# Altium footprint library Hello.PcbLib: 234 footprints (part 3 of 15)
Each footprint in its own frame and in the unit in brackets; x right, y up, seen from the top. Pads: shape width x height; smd on the part's side, far side on the other; paste and mask are expansions set on the pad; w line width, h text height; cw(c..) or ccw(c..) is an arc to the next point about the centre after c.
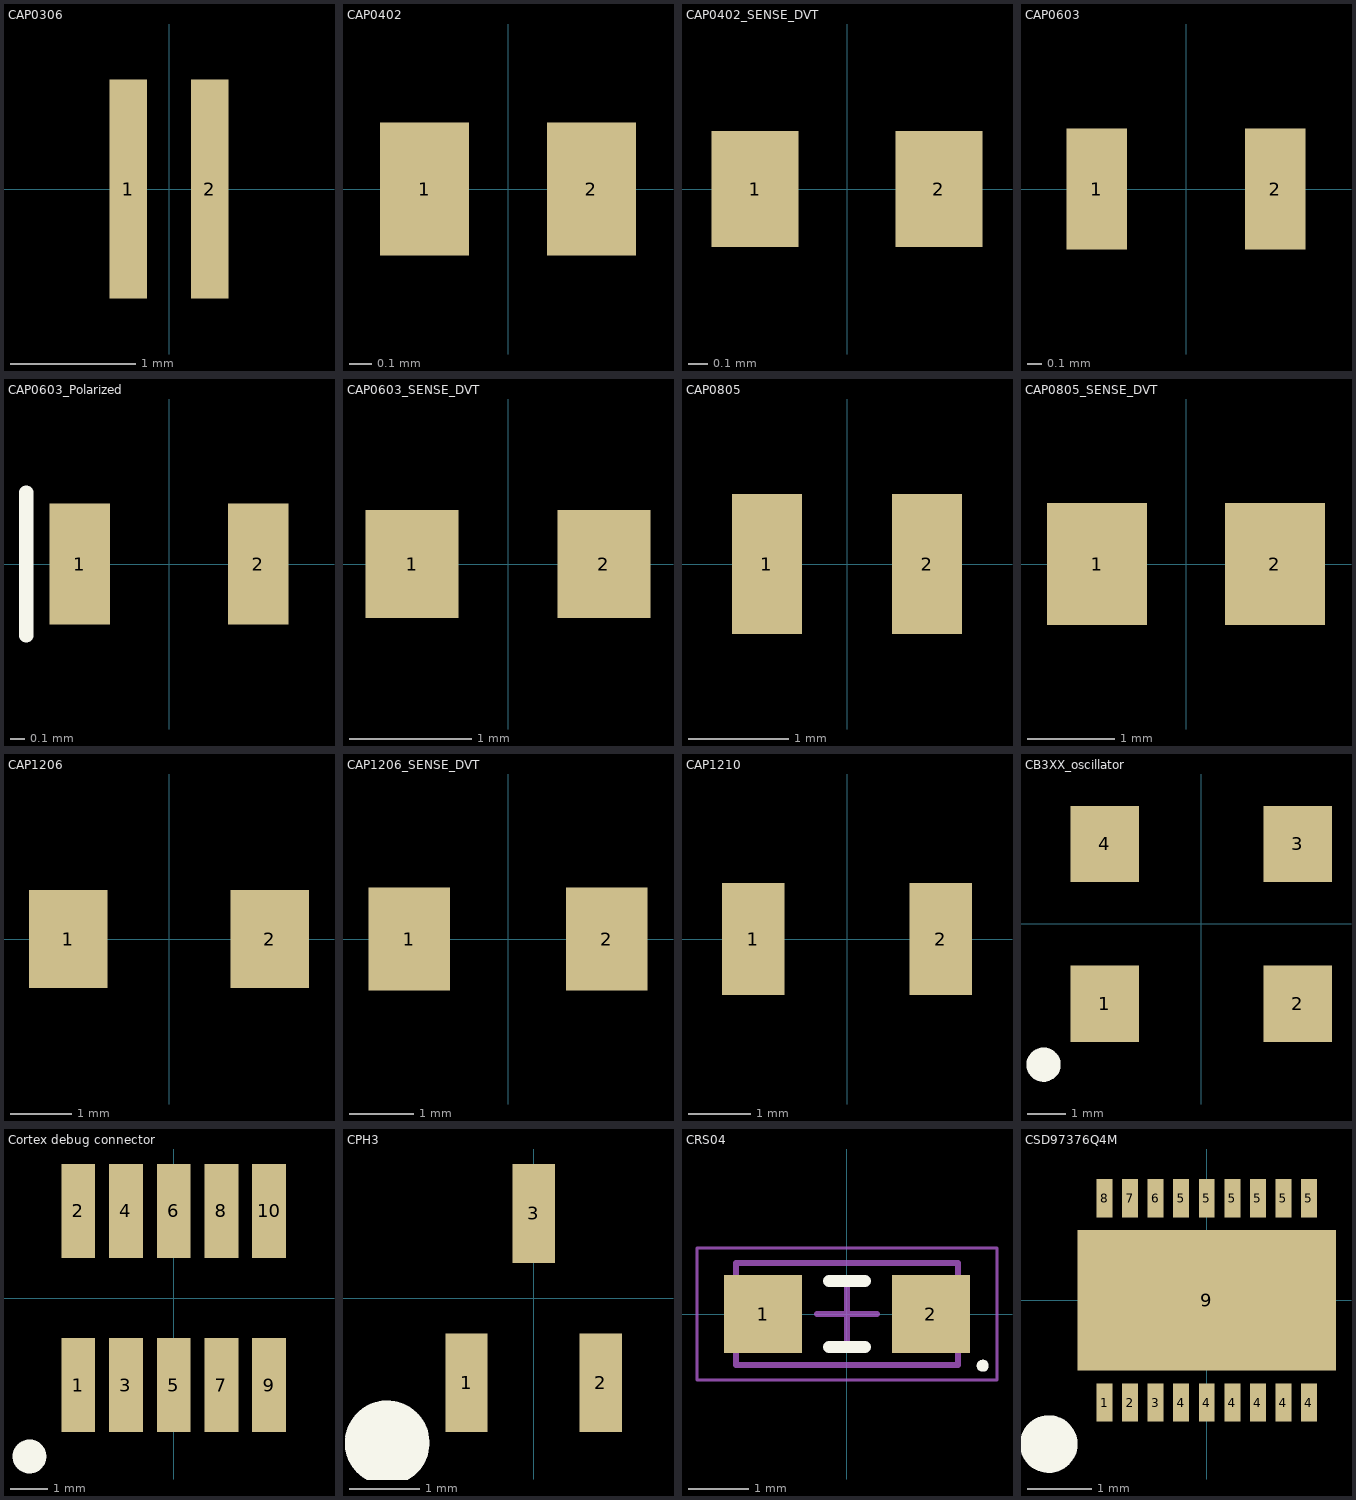
[diagram p2: the footprints below, top view; thin cyan lines are the x and y axes]

## CAP0306 [mm] "Chip Capacitor, 2-Leads, Body 0306 / 0.80x1.60mm, IPC High Density"
height 0.55
pads (2):
  rect 0.3x1.75 smd: 1(-0.325,0) 2(0.325,0)
3D body: height 0.55, standoff 0.01, extent -0.2,-0.85 0.2,0.85
3D body: height 0.55, standoff 0.01, extent -0.45,-0.85 -0.2,0.85
3D body: height 0.55, standoff 0.01, extent 0.2,-0.85 0.45,0.85

## CAP0402 [mm] "Chip Capacitor, 2-Leads, Body 0402 / 0.10x0.50mm, IPC High Density"
height 0.55
pads (2):
  rect 0.4x0.6 smd: 1(-0.375,0) 2(0.375,0)
3D body: height 0.55, standoff 0.01, extent -0.275,-0.275 0.275,0.275
3D body: height 0.55, standoff 0.01, extent 0.275,-0.275 0.525,0.275
3D body: height 0.55, standoff 0.01, extent -0.525,-0.275 -0.275,0.275

## CAP0402_SENSE_DVT [mil] "Chip Capacitor, 2-Leads"
height 21.65
pads (2):
  rect 18x24 smd: 1(-19,0) 2(19,0)
3D body: height 21.65, standoff 0.39, extent -20.67,-10.83 -10.83,10.83
3D body: height 21.65, standoff 0.39, extent 10.83,-10.83 20.67,10.83
3D body: height 19.68, standoff 0, extent -19.68,-9.84 19.68,9.84

## CAP0603 [mm] "Chip Capacitor, 2-Leads, Body 0603 / 1.60x0.8mm, IPC High Density"
height 0.8
pads (2):
  rect 0.425x0.85 smd: 1(-0.625,0) 2(0.625,0)
3D body: height 0.8, standoff 0.01, extent -0.8,-0.4 -0.55,0.4
3D body: height 0.8, standoff 0.01, extent 0.55,-0.4 0.8,0.4
3D body: height 0.8, standoff 0.01, extent -0.55,-0.4 0.55,0.4

## CAP0603_Polarized [mm] "Chip Capacitor, 2-Leads, Body 0603 / 1.60x0.8mm, IPC High Density"
height 0.8
pads (2):
  rect 0.425x0.85 smd: 1(-0.625,0) 2(0.625,0)
Top Overlay:
  lines w0.1: -1,-0.5 -1,0.5
3D body: height 0.8, standoff 0.01, extent -0.8,-0.4 -0.55,0.4
3D body: height 0.8, standoff 0.01, extent 0.55,-0.4 0.8,0.4
3D body: height 0.8, standoff 0.01, extent -0.55,-0.4 0.55,0.4

## CAP0603_SENSE_DVT [mil] "Chip Capacitor, 2-Leads"
height 31.5
pads (2):
  rect 30x35 smd: 1(-31,0) 2(31,0)
3D body: height 31.5, standoff 0.39, extent 21.66,-15.74 31.5,15.75
3D body: height 31.5, standoff 0.39, extent -31.5,-15.75 -21.65,15.75
3D body: height 19.68, standoff 0, extent -31.5,-15.75 31.5,15.75

## CAP0805 [mm] "Chip Capacitor, 2-Leads, Body 0805 / 1.60x0.8mm, IPC High Density"
height 0.85
pads (2):
  rect 0.7x1.4 smd: 1(-0.8,0) 2(0.8,0)
3D body: height 0.5, standoff 0, extent -1.025,-0.7 1,0.7

## CAP0805_SENSE_DVT [mil] "Chip Capacitor, 2-Leads"
height 33.46
pads (2):
  rect 45x55 smd: 1(-40,0) 2(40,0)
3D body: height 19.68, standoff 0, extent -39.37,-24.61 39.37,24.61

## CAP1206 [mil] "Chip Capacitor, 2-Leads, Body 1206 / 3.20x1.60mm, IPC High Density"
height 62.99
pads (2):
  rect 50x63 smd: 1(-64.5,0) 2(64.5,0)
3D body: height 19.68, standoff 0, extent -62.99,-31.5 62.99,31.5

## CAP1206_SENSE_DVT [mil] "Chip Capacitor, 2-Leads"
height 62.99
pads (2):
  rect 50x63 smd: 1(-60.5,0) 2(60.5,0)
3D body: height 62.99, standoff 0, extent -63.98,-31.5 64.96,31.5

## CAP1210 [mm] "Chip Capacitor, 2-Leads, Body 1206 / 3.20x2.5mm, IPC High Density"
height 2.7
pads (2):
  rect 1x1.8 smd: 1(-1.5,0) 2(1.5,0)
3D body: height 2.7, standoff 0, extent -1.625,-0.9 1.65,0.9

## CB3XX_oscillator [mm] "CB3 and CB3LV footprint"
height 1.8
pads (4):
  rect 1.8x2 smd: 1(-2.54,-2.1) 2(2.54,-2.1) 3(2.54,2.1) 4(-2.54,2.1)
Top Overlay:
  circle w0.5: c-4.14,-3.7 r0.2
3D body: height 1, standoff 0, extent -3.64,-2.9 3.66,2.9

## Cortex debug connector [mm] "10-pin, 1.27mm pitch SMD connector"
height 5.5
pads (10):
  rect 0.9x2.5 smd: 1(-2.54,-2.317) 2(-2.54,2.318) 3(-1.27,-2.317) 4(-1.27,2.318) 5(0,-2.317) 6(0,2.318) 7(1.27,-2.317) 8(1.27,2.318) 9(2.54,-2.317) 10(2.54,2.318)
Top Overlay:
  circle w0.5: c-3.84,-4.217 r0.2
3D body: height 5.5, standoff 0.1, extent -3.34,-2.317 3.36,2.183

## CPH3 [mm] "power mosfet footprint from ON Semi"
height 0.9
pads (3):
  rect 0.6x1.4 smd: 1(-0.95,-1.2) 2(0.95,-1.2) 3(0,1.2)
Top Overlay:
  circle w0.6: c-2.075,-2.05 r0.3
3D body: height 0.9, standoff 0, extent -1.45,-0.8 1.45,0.8

## CRS04 [mm] "Schottky Barrier Rectifier (Diode)"
height 0.99
pads (2):
  rect 1.3x1.3 smd: 1(-1.4,0) 2(1.4,0)
Top Overlay:
  circle w0.1: c2.262,-0.862 r0.05
  lines w0.2: -0.3,-0.55 0.3,-0.55 ; -0.3,0.55 0.3,0.55
Mechanical 13:
  lines w0.1: -1.85,-0.85 -1.85,0.85 1.85,0.85 1.85,-0.85 -1.85,-0.85
Mechanical 15:
  lines w0.05: -2.5,-1.1 -2.5,1.1 2.5,1.1 2.5,-1.1 -2.5,-1.1
  lines w0.1: -0.5,0 0.5,0 ; 0,-0.5 0,0.5
3D body: height 0.99, standoff 0, extent -0.95,-0.85 0.95,0.85
3D body: height 0.99, standoff 0, extent -1.85,-0.85 -0.95,0.85
3D body: height 0.99, standoff 0, extent 0.95,-0.85 1.85,0.85

## CSD97376Q4M [mm] "special SON footprint"
pads (19):
  rect 0.25x0.6 smd paste-0.05: 1(-1.6,-1.6) 2(-1.2,-1.6) 3(-0.8,-1.6) 4(-0.4,-1.6) 4(0,-1.6) 4(0.4,-1.6) 4(0.8,-1.6) 4(1.2,-1.6) 4(1.6,-1.6) 5(-0.4,1.6) 5(0,1.6) 5(0.4,1.6) 5(0.8,1.6) 5(1.2,1.6) 5(1.6,1.6) 6(-0.8,1.6) 7(-1.2,1.6) 8(-1.6,1.6)
  rect 4.05x2.2 smd paste-0.1: 9(0,0)
Top Overlay:
  circle w0.5: c-2.475,-2.25 r0.2
3D body: height 1, standoff 0.08, extent -2.05,-1.9 2.025,1.875